# Altium schematic symbol library SKY65383-11.SchLib: 1 symbol
Pins are listed as number, name and electrical type; pins without a type are passive.

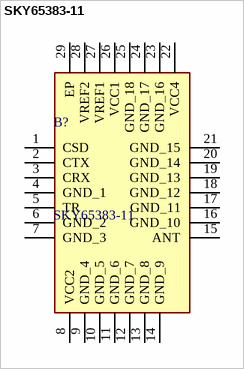
[diagram p0: symbol SKY65383-11]

## SKY65383-11
designator B?
HIGH POWER 2.4-GHZ FEM; Manufacturer_Name: Skyworks; Geometry.Height: 0.95mm; Mouser Part Number: 873-SKY65383-11; Mouser Price/Stock: https://www.mouser.co.uk/ProductDetail/Skyworks-Solutions-Inc/SKY65383-11?qs=4FzvMsMEDjYVKiHkv3xavQ%3D%3D; Manufacturer_Part_Number: SKY65383-11; Datasheet Link: https://componentsearchengine.com/Datasheets/1/SKY65383-11.pdf
footprint SKY6538311
pins: 1 CSD, 2 CTX, 3 CRX, 4 GND_1, 5 TR, 6 GND_2, 7 GND_3, 8 VCC2, 9 GND_4, 10 GND_5, 11 GND_6, 12 GND_7, 13 GND_8, 14 GND_9, 15 ANT, 16 GND_10, 17 GND_11, 18 GND_12, 19 GND_13, 20 GND_14, 21 GND_15, 22 VCC4, 23 GND_16, 24 GND_17, 25 GND_18, 26 VCC1, 27 VREF1, 28 VREF2, 29 EP